# Altium footprint library Resistor_SMD.PcbLib: 67 footprints (part 3 of 5)
Each footprint in its own frame and in the unit in brackets; x right, y up, seen from the top. Pads: shape width x height; smd on the part's side, far side on the other; paste and mask are expansions set on the pad; w line width, h text height; cw(c..) or ccw(c..) is an arc to the next point about the centre after c.
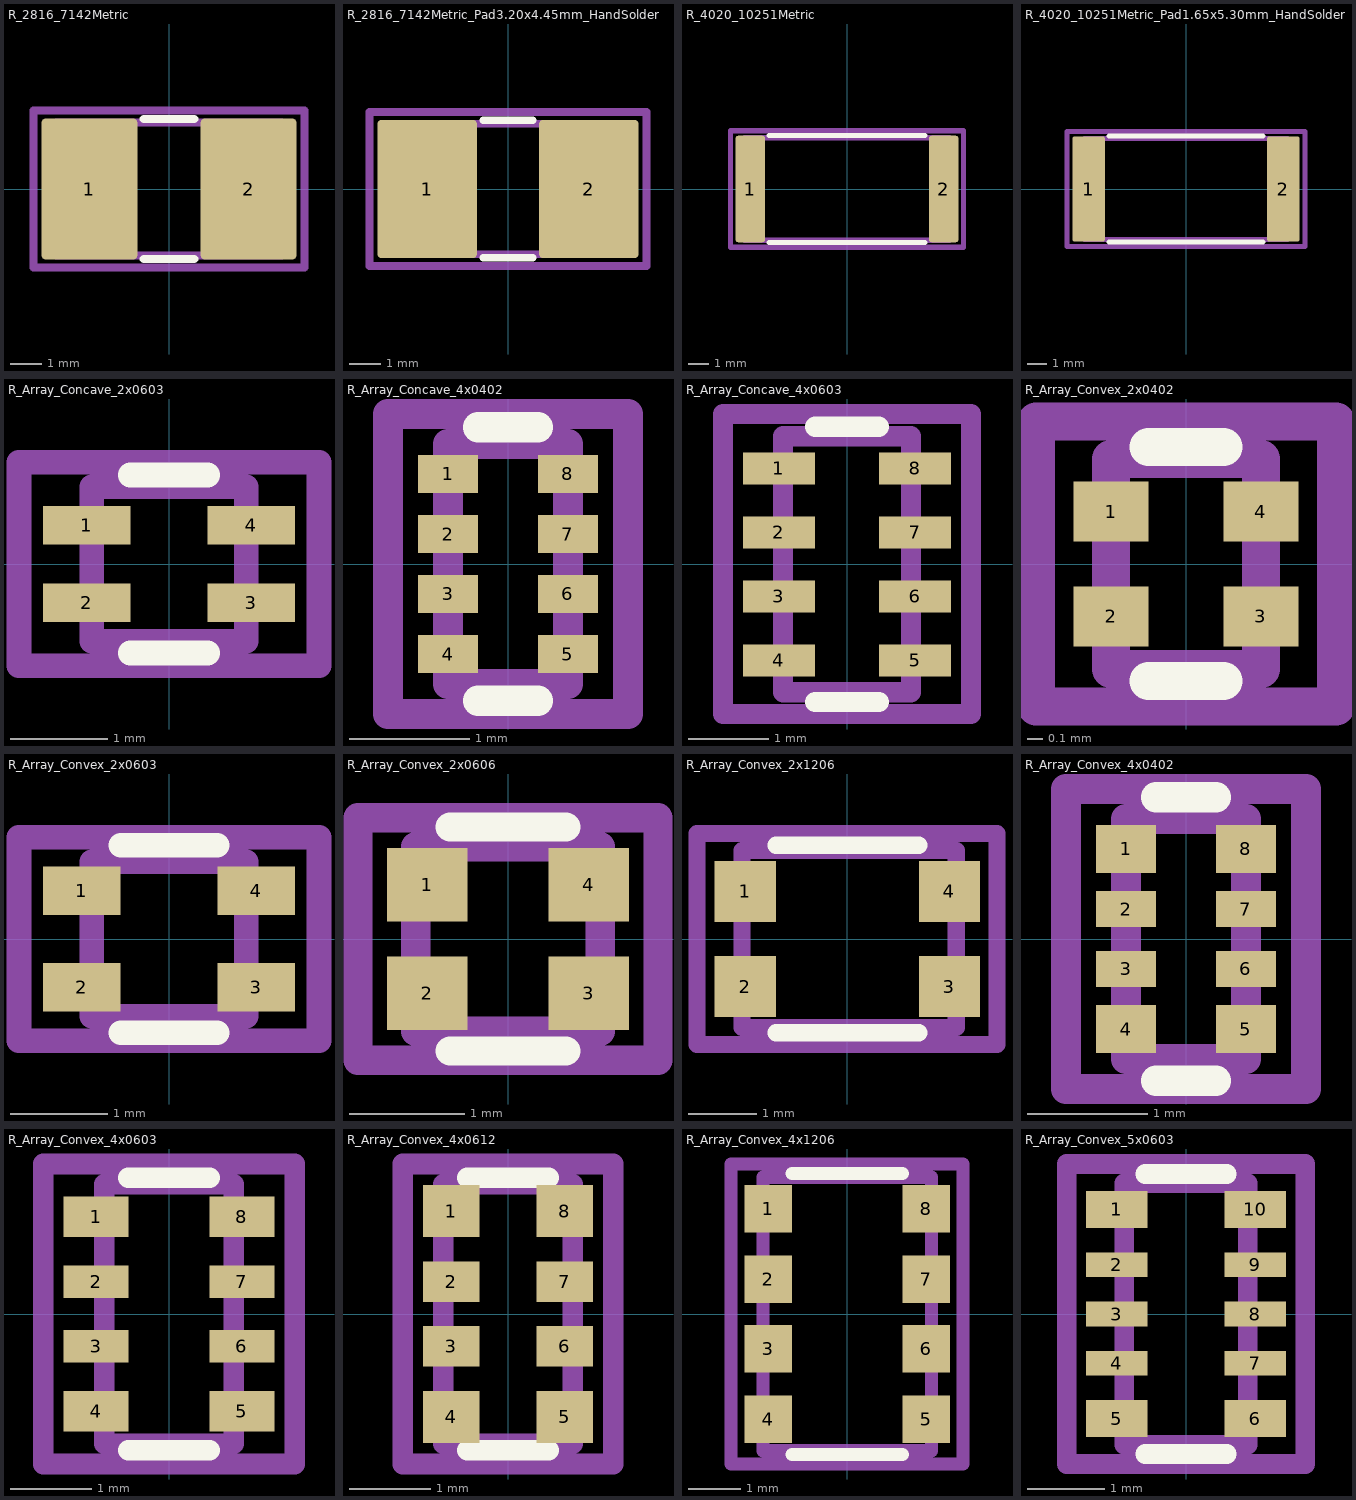
[diagram p2: the footprints below, top view; thin cyan lines are the x and y axes]

## R_2816_7142Metric [mm]
pads (2):
  rrect8% 3.025x4.45 smd: 1(-2.512,0) 2(2.512,0)
F.SilkS:
  lines w0.254: -0.797,-2.21 0.797,-2.21 ; -0.797,2.21 0.797,2.21
F.CrtYd:
  lines w0.254: -4.28,-2.48 -4.28,2.48 4.28,2.48 4.28,-2.48 -4.28,-2.48
F.Fab:
  lines w0.254: -3.55,-2.1 -3.55,2.1 3.55,2.1 3.55,-2.1 -3.55,-2.1
  text "'.Designator'" at -4.047,-0.84 h1

## R_2816_7142Metric_Pad3.20x4.45mm_HandSolder [mm]
pads (2):
  rrect8% 3.2x4.45 smd: 1(-2.6,0) 2(2.6,0)
F.SilkS:
  lines w0.254: -0.797,-2.21 0.797,-2.21 ; -0.797,2.21 0.797,2.21
F.CrtYd:
  lines w0.254: -4.45,-2.48 -4.45,2.48 4.45,2.48 4.45,-2.48 -4.45,-2.48
F.Fab:
  lines w0.254: -3.55,-2.1 -3.55,2.1 3.55,2.1 3.55,-2.1 -3.55,-2.1
  text "'.Designator'" at -4.047,-0.84 h1

## R_4020_10251Metric [mm]
pads (2):
  rrect17% 1.475x5.3 smd: 1(-4.812,0) 2(4.812,0)
F.SilkS:
  lines w0.254: -3.886,-2.66 3.886,-2.66 ; -3.886,2.66 3.886,2.66
F.CrtYd:
  lines w0.254: -5.8,-2.9 -5.8,2.9 5.8,2.9 5.8,-2.9 -5.8,-2.9
F.Fab:
  lines w0.254: -5.1,-2.55 -5.1,2.55 5.1,2.55 5.1,-2.55 -5.1,-2.55
  text "'.Designator'" at -4.047,-0.84 h1

## R_4020_10251Metric_Pad1.65x5.30mm_HandSolder [mm]
pads (2):
  rrect15% 1.65x5.3 smd: 1(-4.9,0) 2(4.9,0)
F.SilkS:
  lines w0.254: -3.886,-2.66 3.886,-2.66 ; -3.886,2.66 3.886,2.66
F.CrtYd:
  lines w0.254: -5.98,-2.9 -5.98,2.9 5.98,2.9 5.98,-2.9 -5.98,-2.9
F.Fab:
  lines w0.254: -5.1,-2.55 -5.1,2.55 5.1,2.55 5.1,-2.55 -5.1,-2.55
  text "'.Designator'" at -4.047,-0.84 h1

## R_Array_Concave_2x0603 [mm]
pads (4):
  rect 0.9x0.4 smd: 1(-0.85,0.4) 2(-0.85,-0.4) 3(0.85,-0.4) 4(0.85,0.4)
F.SilkS:
  lines w0.254: -0.4,-0.92 0.4,-0.92 ; -0.4,0.92 0.4,0.92
F.CrtYd:
  lines w0.254: -1.55,-1.05 -1.55,1.05 1.55,1.05 1.55,-1.05 -1.55,-1.05
F.Fab:
  lines w0.254: -0.8,-0.8 -0.8,0.8 0.8,0.8 0.8,-0.8 -0.8,-0.8
  text "'.Designator'" at -4.047,0.91 h1

## R_Array_Concave_4x0402 [mm]
pads (8):
  rect 0.5x0.32 smd: 1(-0.5,0.75) 2(-0.5,0.25) 3(-0.5,-0.25) 4(-0.5,-0.75) 5(0.5,-0.75) 6(0.5,-0.25) 7(0.5,0.25) 8(0.5,0.75)
F.SilkS:
  lines w0.254: -0.25,-1.14 0.25,-1.14 ; -0.25,1.14 0.25,1.14
F.CrtYd:
  lines w0.254: -1,-1.25 -1,1.25 1,1.25 1,-1.25 -1,-1.25
F.Fab:
  lines w0.254: -0.5,-1 -0.5,1 0.5,1 0.5,-1 -0.5,-1
  text "'.Designator'" at 0.42,-2.023 h0.5

## R_Array_Concave_4x0603 [mm]
pads (8):
  rect 0.9x0.4 smd: 1(-0.85,1.2) 2(-0.85,0.4) 3(-0.85,-0.4) 4(-0.85,-1.2) 5(0.85,-1.2) 6(0.85,-0.4) 7(0.85,0.4) 8(0.85,1.2)
F.SilkS:
  lines w0.254: -0.4,-1.72 0.4,-1.72 ; -0.4,1.72 0.4,1.72
F.CrtYd:
  lines w0.254: -1.55,-1.87 -1.55,1.88 1.55,1.88 1.55,-1.87 -1.55,-1.87
F.Fab:
  lines w0.254: -0.8,-1.6 -0.8,1.6 0.8,1.6 0.8,-1.6 -0.8,-1.6
  text "'.Designator'" at 0.42,-2.023 h0.5

## R_Array_Convex_2x0402 [mm]
pads (4):
  rect 0.5x0.4 smd: 1(-0.5,0.35) 2(-0.5,-0.35) 3(0.5,-0.35) 4(0.5,0.35)
F.SilkS:
  lines w0.254: -0.25,-0.78 0.25,-0.78 ; -0.25,0.78 0.25,0.78
F.CrtYd:
  lines w0.254: -1,-0.95 -1,0.95 1,0.95 1,-0.95 -1,-0.95
F.Fab:
  lines w0.254: -0.5,-0.7 -0.5,0.7 0.5,0.7 0.5,-0.7 -0.5,-0.7
  text "'.Designator'" at -4.047,0.91 h1

## R_Array_Convex_2x0603 [mm]
pads (4):
  rect 0.8x0.5 smd: 1(-0.9,0.5) 2(-0.9,-0.5) 3(0.9,-0.5) 4(0.9,0.5)
F.SilkS:
  lines w0.254: -0.5,-0.97 0.5,-0.97 ; -0.5,0.97 0.5,0.97
F.CrtYd:
  lines w0.254: -1.55,-1.05 -1.55,1.05 1.55,1.05 1.55,-1.05 -1.55,-1.05
F.Fab:
  lines w0.254: -0.8,-0.8 -0.8,0.8 0.8,0.8 0.8,-0.8 -0.8,-0.8
  text "'.Designator'" at -4.047,0.91 h1

## R_Array_Convex_2x0606 [mm]
pads (4):
  rect 0.7x0.64 smd: 1(-0.7,0.47) 2(-0.7,-0.47) 3(0.7,-0.47) 4(0.7,0.47)
F.SilkS:
  lines w0.254: -0.5,-0.97 0.5,-0.97 ; -0.5,0.97 0.5,0.97
F.CrtYd:
  lines w0.254: -1.3,-1.05 -1.3,1.05 1.3,1.05 1.3,-1.05 -1.3,-1.05
F.Fab:
  lines w0.254: -0.8,-0.8 -0.8,0.8 0.8,0.8 0.8,-0.8 -0.8,-0.8
  text "'.Designator'" at -4.047,0.91 h1

## R_Array_Convex_2x1206 [mm]
pads (4):
  rect 0.9x0.9 smd: 1(-1.5,0.7) 2(-1.5,-0.7) 3(1.5,-0.7) 4(1.5,0.7)
F.SilkS:
  lines w0.254: -1.05,-1.38 1.05,-1.38 ; -1.05,1.38 1.05,1.38
F.CrtYd:
  lines w0.254: -2.21,-1.55 -2.21,1.55 2.2,1.55 2.2,-1.55 -2.21,-1.55
F.Fab:
  lines w0.254: -1.55,-1.3 -1.55,1.3 1.6,1.3 1.6,-1.3 -1.55,-1.3
  text "'.Designator'" at -2.808,-0.588 h0.7

## R_Array_Convex_4x0402 [mm]
pads (8):
  rect 0.5x0.4 smd: 1(-0.5,0.75) 4(-0.5,-0.75) 5(0.5,-0.75) 8(0.5,0.75)
  rect 0.5x0.3 smd: 2(-0.5,0.25) 3(-0.5,-0.25) 6(0.5,-0.25) 7(0.5,0.25)
F.SilkS:
  lines w0.254: -0.25,-1.18 0.25,-1.18 ; -0.25,1.18 0.25,1.18
F.CrtYd:
  lines w0.254: -1,-1.25 -1,1.25 1,1.25 1,-1.25 -1,-1.25
F.Fab:
  lines w0.254: -0.5,-1 -0.5,1 0.5,1 0.5,-1 -0.5,-1
  text "'.Designator'" at 0.42,-2.023 h0.5

## R_Array_Convex_4x0603 [mm]
pads (8):
  rect 0.8x0.5 smd: 1(-0.9,1.2) 4(-0.9,-1.2) 5(0.9,-1.2) 8(0.9,1.2)
  rect 0.8x0.4 smd: 2(-0.9,0.4) 3(-0.9,-0.4) 6(0.9,-0.4) 7(0.9,0.4)
F.SilkS:
  lines w0.254: -0.5,-1.68 0.5,-1.68 ; -0.5,1.68 0.5,1.68
F.CrtYd:
  lines w0.254: -1.55,-1.85 -1.55,1.85 1.55,1.85 1.55,-1.85 -1.55,-1.85
F.Fab:
  lines w0.254: -0.8,-1.6 -0.8,1.6 0.8,1.6 0.8,-1.6 -0.8,-1.6
  text "'.Designator'" at 0.42,-2.023 h0.5

## R_Array_Convex_4x0612 [mm]
pads (8):
  rect 0.7x0.64 smd: 1(-0.7,1.27) 4(-0.7,-1.27) 5(0.7,-1.27) 8(0.7,1.27)
  rect 0.7x0.5 smd: 2(-0.7,0.4) 3(-0.7,-0.4) 6(0.7,-0.4) 7(0.7,0.4)
F.SilkS:
  lines w0.254: -0.5,-1.68 0.5,-1.68 ; -0.5,1.68 0.5,1.68
F.CrtYd:
  lines w0.254: -1.3,-1.85 -1.3,1.85 1.3,1.85 1.3,-1.85 -1.3,-1.85
F.Fab:
  lines w0.254: -0.8,-1.6 -0.8,1.6 0.8,1.6 0.8,-1.6 -0.8,-1.6
  text "'.Designator'" at 0.42,-2.023 h0.5

## R_Array_Convex_4x1206 [mm]
pads (8):
  rect 0.9x0.9 smd: 1(-1.5,2) 2(-1.5,0.66) 3(-1.5,-0.66) 4(-1.5,-2) 5(1.5,-2) 6(1.5,-0.66) 7(1.5,0.66) 8(1.5,2)
F.SilkS:
  lines w0.254: -1.05,-2.67 1.05,-2.67 ; -1.05,2.67 1.05,2.67
F.CrtYd:
  lines w0.254: -2.21,-2.85 -2.21,2.85 2.2,2.85 2.2,-2.85 -2.21,-2.85
F.Fab:
  lines w0.254: -1.6,-2.6 -1.6,2.6 1.6,2.6 1.6,-2.6 -1.6,-2.6
  text "'.Designator'" at 0.588,-2.833 h0.7

## R_Array_Convex_5x0603 [mm]
pads (10):
  rect 0.8x0.48 smd: 1(-0.9,1.36) 5(-0.9,-1.36) 6(0.9,-1.36) 10(0.9,1.36)
  rect 0.8x0.32 smd: 2(-0.9,0.64) 3(-0.9,0) 4(-0.9,-0.64) 7(0.9,-0.64) 8(0.9,0) 9(0.9,0.64)
F.SilkS:
  lines w0.254: -0.53,-1.82 0.53,-1.82 ; -0.53,1.82 0.53,1.82
F.CrtYd:
  lines w0.254: -1.55,-1.95 -1.55,1.95 1.55,1.95 1.55,-1.95 -1.55,-1.95
F.Fab:
  lines w0.254: -0.8,-1.7 -0.8,1.7 0.8,1.7 0.8,-1.7 -0.8,-1.7
  text "'.Designator'" at 0.42,-2.023 h0.5